# EAGLE library part UART_IF_6PIN (library PartsForProto)
電源付きUARTインターフェース
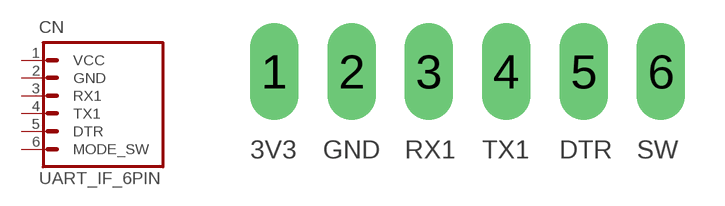
[diagram p24: symbol with the pads of UART_IF_6PIN; footprint UART_IF_6PIN]

Designator prefix CN

## UART_IF_6PIN  [UART_IF_6PIN]
1  VCC  pas
2  GND  pas
3  RX1
4  TX1
5  DTR
6  MODE_SW

## Footprint UART_IF_6PIN (pad centres in mm)
PIN HEADER
drill 1 pad 1.6 long: 1 0,0; 2 2.54,0; 3 5.08,0; 4 7.62,0; 5 10.16,0; 6 12.7,0